# Altium footprint library pcblibLS.PcbLib: 49 footprints (part 2 of 4)
Each footprint in its own frame and in the unit in brackets; x right, y up, seen from the top. Pads: shape width x height; smd on the part's side, far side on the other; paste and mask are expansions set on the pad; w line width, h text height; cw(c..) or ccw(c..) is an arc to the next point about the centre after c.
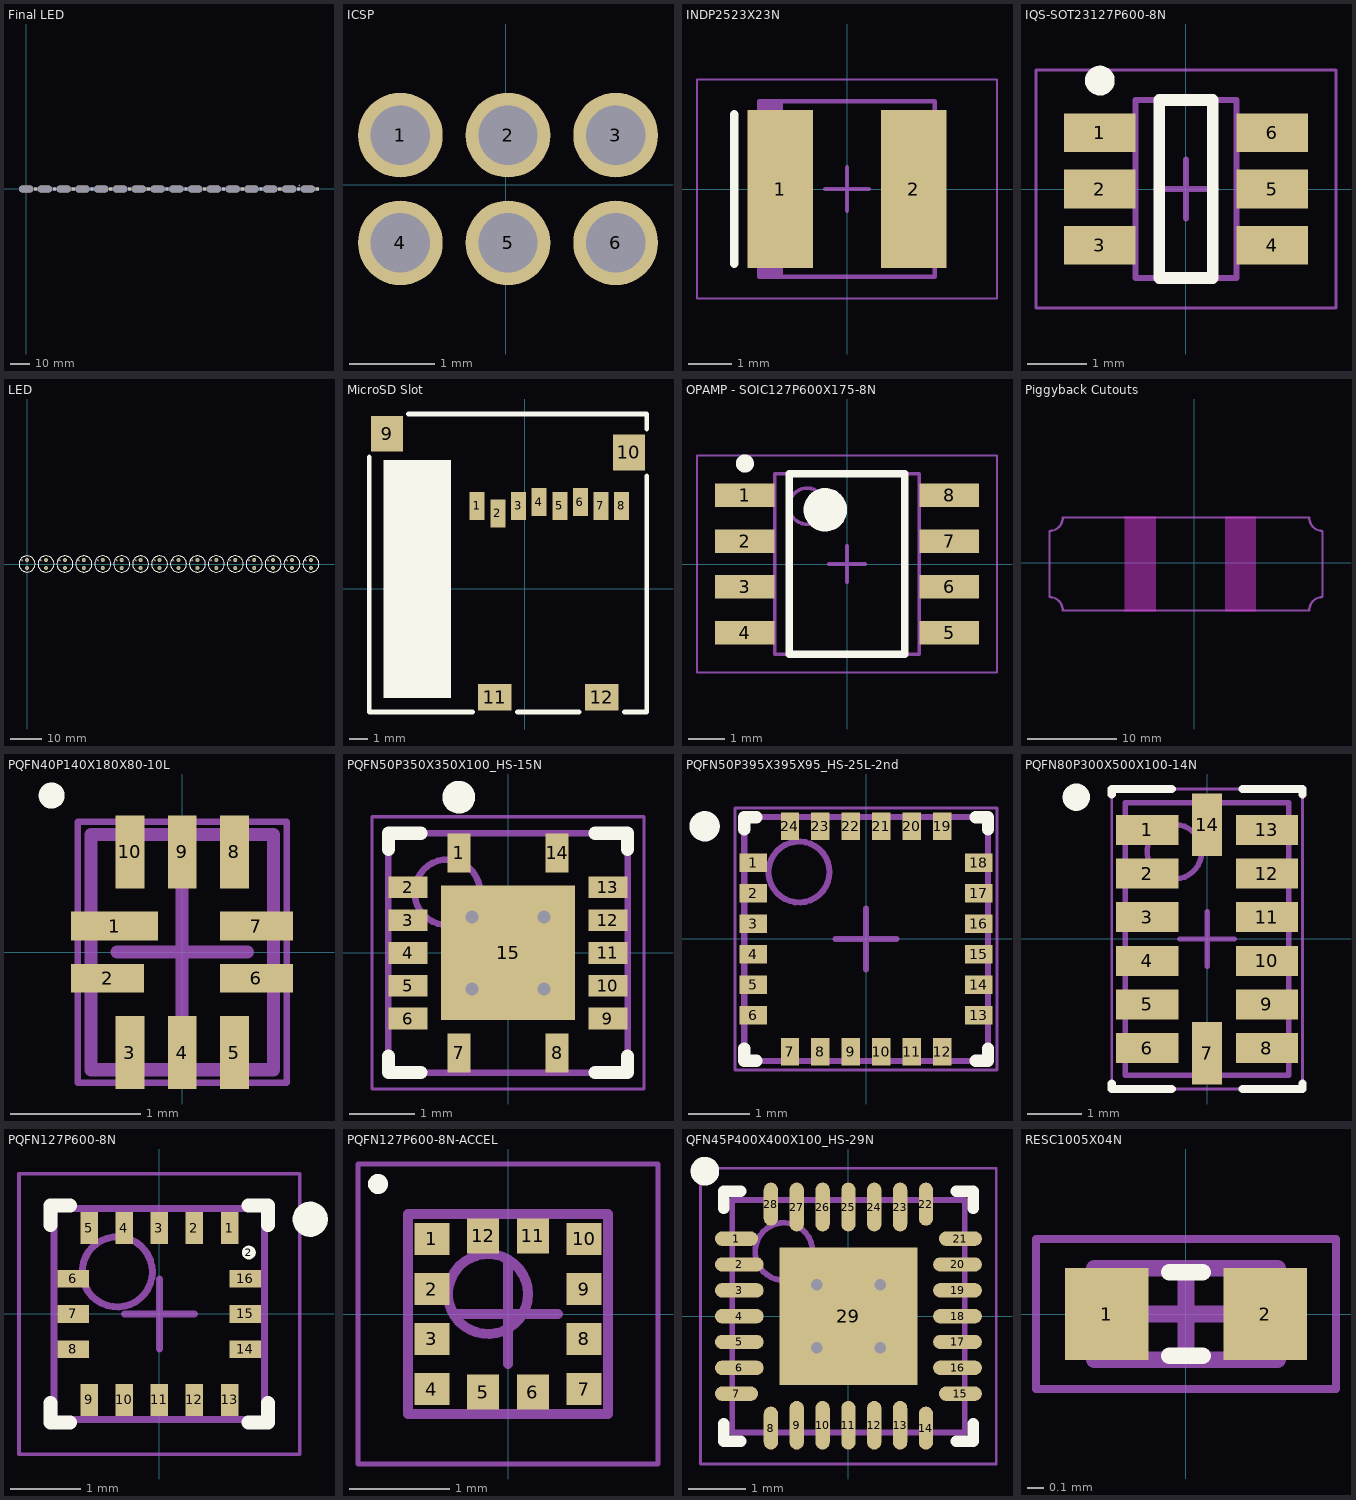
[diagram p1: the footprints below, top view; thin cyan lines are the x and y axes]

## Final LED [mil]
pads (48):
  rect 65x65 smd: A(189.75,-0.25) A(564.75,-0.25) A(939.75,-0.25) A(1314.75,-0.25) A(1689.75,-0.25) A(2064.75,-0.25) A(2439.75,-0.25) A(2814.75,-0.25) A(3189.75,-0.25) A(3564.75,-0.25) A(3939.75,-0.25) A(4314.75,-0.25) A(4689.75,-0.25) A(5064.75,-0.25) A(5439.75,-0.25) A(5814.75,-0.25)
  rect 65x65 smd far side: K(189.75,-0.25) K(564.75,-0.25) K(939.75,-0.25) K(1314.75,-0.25) K(1689.75,-0.25) K(2064.75,-0.25) K(2439.75,-0.25) K(2814.75,-0.25) K(3189.75,-0.25) K(3564.75,-0.25) K(3939.75,-0.25) K(4314.75,-0.25) K(4689.75,-0.25) K(5064.75,-0.25) K(5439.75,-0.25) K(5814.75,-0.25)
  oval 285x135 hole 135 slot 285 at 0 deg unplated: ""(-0.25,-0.25) ""(374.75,-0.25) ""(749.75,-0.25) ""(1124.75,-0.25) ""(1499.75,-0.25) ""(1874.75,-0.25) ""(2249.75,-0.25) ""(2624.75,-0.25) ""(2999.75,-0.25) ""(3374.75,-0.25) ""(3749.75,-0.25) ""(4124.75,-0.25) ""(4499.75,-0.25) ""(4874.75,-0.25) ""(5249.75,-0.25) ""(5624.75,-0.25)
Top Overlay:
  text "+" at 5429.75,41.75 h45
Bottom Overlay:
  text "GND" at 5499.73,-99.25 h45

## ICSP [mm] "50 mil pitch icsp headers..."
pads (6):
  round 1 hole 0.7: 1(-1.245,0.584) 2(0.025,0.584) 3(1.295,0.584) 4(-1.245,-0.686) 5(0.025,-0.686) 6(1.295,-0.686)

## INDP2523X23N [mm] "Bournes 4x4mm IND"
height 2.5
pads (2):
  rect 1.5x3.6 smd: 1(-1.525,0) 2(1.525,0)
Top Overlay:
  lines w0.2: -2.575,-1.7 -2.575,1.7
Mechanical 13:
  rectangle: -2,-2 -1.462,2
  lines w0.1: -2,-2 -2,2 2,2 2,-2 -2,-2
Mechanical 15:
  lines w0.05: -3.425,-2.5 -3.425,2.5 3.425,2.5 3.425,-2.5 -3.425,-2.5
  lines w0.1: -0.5,0 0.5,0 ; 0,-0.5 0,0.5
3D body: height 2.5, standoff 0, extent -2,-2 2,2

## IQS-SOT23127P600-8N [mm] "IQS127D IC"
height 1
pads (6):
  rect 1.2x0.65 smd: 1(-1.45,0.95) 2(-1.45,0) 3(-1.45,-0.95) 4(1.45,-0.95) 5(1.45,0) 6(1.45,0.95)
Top Overlay:
  circle w0.25: c-1.45,1.825 r0.125
  lines w0.2: -0.45,-1.5 0.45,-1.5 0.45,1.5 -0.45,1.5 -0.45,-1.5
Mechanical 13:
  lines w0.1: -0.85,-1.5 -0.85,1.5 0.85,1.5 0.85,-1.5 -0.85,-1.5
Mechanical 15:
  lines w0.05: -2.525,-2 -2.525,2 2.525,2 2.525,-2 -2.525,-2
  lines w0.1: -0.5,0 0.5,0 ; 0,-0.5 0,0.5
3D body: height 1, standoff 0.02, extent -0.85,-1.5 0.85,1.5

## LED [mil]
pads (32):
  round 50 hole 28: A(-0.39,50.2) A(234.69,50) A(468.98,50.2) A(704.06,50) A(938.35,50.2) A(1173.43,50) A(1407.72,50.2) A(1642.8,50) A(1877.09,50.2) A(2112.17,50) A(2346.46,50.2) A(2581.54,50) A(2815.83,50.2) A(3050.91,50) A(3285.2,50.2) A(3520.28,50) K(-0.39,-49.8) K(234.69,-50) K(468.98,-49.8) K(704.06,-50) K(938.35,-49.8) K(1173.43,-50) K(1407.72,-49.8) K(1642.8,-50) K(1877.09,-49.8) K(2112.17,-50) K(2346.46,-49.8) K(2581.54,-50) K(2815.83,-49.8) K(3050.91,-50) K(3285.2,-49.8) K(3520.28,-50)
Top Overlay:
  circle w10: c1877.09,0.2 r100
  circle w10: c2112.17,0 r100
  circle w10: c2581.54,0 r100
  circle w10: c2346.46,0.2 r100
  circle w10: c3285.2,0.2 r100
  circle w10: c3520.28,0 r100
  circle w10: c3050.91,0 r100
  circle w10: c2815.83,0.2 r100
  circle w10: c938.35,0.2 r100
  circle w10: c1173.43,0 r100
  circle w10: c1642.8,0 r100
  circle w10: c1407.72,0.2 r100
  circle w10: c468.98,0.2 r100
  circle w10: c704.06,0 r100
  circle w10: c234.69,0 r100
  circle w10: c-0.39,0.2 r100
  text "A" at 1802.48,25 h30
  text "A" at 2037.17,25 h30
  text "A" at 2506.54,25 h30
  text "A" at 2271.85,25 h30
  text "A" at 3210.59,25 h30
  text "A" at 3445.28,25 h30
  text "A" at 2975.91,25 h30
  text "A" at 2741.22,25 h30
  text "A" at 863.74,25 h30
  text "A" at 1098.43,25 h30
  text "A" at 1567.8,25 h30
  text "A" at 1333.11,25 h30
  text "A" at 394.37,25 h30
  text "A" at 629.06,25 h30
  text "A" at 159.69,25 h30
  text "A" at -75,25 h30

## MicroSD Slot [mm]
height 2.36
pads (12):
  rect 0.8x1.5 smd: 1(-2.541,4.423) 2(-1.441,4.023) 3(-0.341,4.423) 4(0.759,4.623) 5(1.859,4.423) 6(2.959,4.623) 7(4.059,4.423) 8(5.159,4.423)
  rect 1.7x1.9 smd: 9(-7.351,8.273) 10(5.549,7.273)
  rect 1.8x1.4 smd: 11(-1.601,-5.777) 12(4.099,-5.777)
Top Overlay:
  rectangle: -7.551,-5.827 -3.951,6.873
  lines w0.254: -8.301,7.023 -8.301,-6.577 -2.801,-6.577 ; -6.201,9.323 6.499,9.323 6.499,8.523 ; -0.401,-6.577 2.899,-6.577 ; 5.299,-6.577 6.499,-6.577 6.499,6.023

## OPAMP - SOIC127P600X175-8N [mm] "TI TLV2462 D Package"
height 1.75
pads (8):
  rect 1.65x0.65 smd: 1(-2.825,1.905) 2(-2.825,0.635) 3(-2.825,-0.635) 4(-2.825,-1.905) 5(2.825,-1.905) 6(2.825,-0.635) 7(2.825,0.635) 8(2.825,1.905)
Top Overlay:
  circle w0.25: c-2.825,2.78 r0.125
  circle w0.6: c-0.6,1.5 r0.3
  lines w0.2: -1.6,-2.5 -1.6,2.5 1.6,2.5 1.6,-2.5 -1.6,-2.5
Mechanical 13:
  circle w0.1: c-1.1,1.6 r0.5
  lines w0.1: -2,-2.5 -2,2.5 2,2.5 2,-2.5 -2,-2.5
Mechanical 15:
  lines w0.05: -4.15,-3 -4.15,3 4.15,3 4.15,-3 -4.15,-3
  lines w0.1: -0.5,0 0.5,0 ; 0,-0.5 0,0.5
3D body: height 1.75, standoff 0.01, extent -2,-2.5 2,2.5

## Piggyback Cutouts [mm] "Cutouts for piggyback board"
Keep-Out Layer:
  board cut-out: 3.5,-5.4 6.9,-5.4 6.9,5.175 3.5,5.175
  board cut-out: -7.75,-5.4 -4.275,-5.4 -4.275,5.175 -7.75,5.175
  lines w0.4: -7.55,-5.2 -7.55,4.985 -4.475,4.985 -4.475,-5.2 -7.55,-5.2 ; 3.7,-5.2 3.7,4.985 6.7,4.985 6.7,-5.2 3.7,-5.2
Mechanical 15:
  lines w0.254: -16.2,-3.825 cw(c-16.2,-5.325) -14.7,-5.325 12.9,-5.325 cw(c14.4,-5.325) 14.4,-3.825 14.4,3.575 cw(c14.4,5.075) 12.9,5.075 -14.7,5.075 cw(c-16.2,5.075) -16.2,3.575 -16.2,-3.825

## PQFN40P140X180X80-10L [mm] "2-SPDT-Switch - PQFN, 10-Leads, Body 1.40x1.80mm, Pitch 0.40mm, IPC High Density"
height 0.8
pads (10):
  rect 0.663x0.22 smd: 1(-0.519,0.2)
  rect 0.558x0.22 smd: 2(-0.571,-0.2) 6(0.569,-0.2) 7(0.569,0.2)
  rect 0.22x0.558 smd: 3(-0.4,-0.768) 4(0,-0.768) 5(0.4,-0.768) 8(0.4,0.768) 9(0,0.768) 10(-0.4,0.768)
Top Overlay:
  circle w0.1: c-1,1.2 r0.05
Mechanical 13:
  lines w0.1: -0.7,-0.9 0.7,-0.9 0.7,0.9 -0.7,0.9 -0.7,-0.9
Mechanical 15:
  lines w0.05: -0.8,-1 0.8,-1 0.8,1 -0.8,1 -0.8,-1
  lines w0.1: -0.5,0 0.5,0 ; 0,-0.5 0,0.5
3D body: height 0.8, standoff 0, extent -0.7,-0.9 0.7,0.9

## PQFN50P350X350X100_HS-15N [mm] "4-SWT - PQFN, 14-Leads, Body 3.50x3.50mm, Pitch 1.50mm/0.50mm, Thermal Pad 2.05x2.05mm, IPC Medium Density"
height 1
pads (15):
  rect 0.35x0.6 smd: 1(-0.75,1.525) 7(-0.75,-1.525) 8(0.75,-1.525) 14(0.75,1.525)
  rect 0.6x0.33 smd: 2(-1.525,1) 3(-1.525,0.5) 4(-1.525,0) 5(-1.525,-0.5) 6(-1.525,-1) 9(1.525,-1) 10(1.525,-0.5) 11(1.525,0) 12(1.525,0.5) 13(1.525,1)
  rect 2.05x2.05 smd: 15(0,0)
via -0.55,0.55 diameter 0.5 hole 0.2
via 0.55,0.55 diameter 0.5 hole 0.2
via -0.55,-0.55 diameter 0.5 hole 0.2
via 0.55,-0.55 diameter 0.5 hole 0.2
Top Overlay:
  circle w0.25: c-0.75,2.375 r0.125
  lines w0.2: -1.825,-1.575 -1.825,-1.825 -1.325,-1.825 ; -1.825,1.575 -1.825,1.825 -1.325,1.825 ; 1.325,-1.825 1.825,-1.825 1.825,-1.575 ; 1.325,1.825 1.825,1.825 1.825,1.575
Mechanical 13:
  circle w0.1: c-0.925,0.925 r0.5
  lines w0.1: -1.825,-1.825 -1.825,1.825 1.825,1.825 1.825,-1.825 -1.825,-1.825
Mechanical 15:
  lines w0.05: -2.075,-2.075 -2.075,2.075 2.075,2.075 2.075,-2.075 -2.075,-2.075
  lines w0.1: -0.5,0 0.5,0 ; 0,-0.5 0,0.5
3D body: height 1, standoff 0, extent -1.825,-1.825 1.825,1.825

## PQFN50P395X395X95_HS-25L-2nd [mm] "ITG3205 - PQFN, 24-Leads, Body 3.95x3.95mm, Pitch 0.50mm, Thermal Pad 2.90x2.80mm, IPC High Density"
height 0.95
pads (24):
  rect 0.45x0.3 smd: 1(-1.85,1.25) 2(-1.85,0.75) 3(-1.85,0.25) 4(-1.85,-0.25) 5(-1.85,-0.75) 6(-1.85,-1.25) 13(1.85,-1.25) 14(1.85,-0.75) 15(1.85,-0.25) 16(1.85,0.25) 17(1.85,0.75) 18(1.85,1.25)
  rect 0.3x0.45 smd: 7(-1.25,-1.85) 8(-0.75,-1.85) 9(-0.25,-1.85) 10(0.25,-1.85) 11(0.75,-1.85) 12(1.25,-1.85) 19(1.25,1.85) 20(0.75,1.85) 21(0.25,1.85) 22(-0.25,1.85) 23(-0.75,1.85) 24(-1.25,1.85)
Top Overlay:
  circle w0.25: c-2.65,1.85 r0.125
  lines w0.2: -2,-1.8 -2,-2 -1.8,-2 ; -2,1.8 -2,2 -1.8,2 ; 1.8,-2 2,-2 2,-1.8 ; 1.8,2 2,2 2,1.8
Mechanical 13:
  circle w0.1: c-1.1,1.1 r0.5
  lines w0.1: -2,-2 2,-2 2,2 -2,2 -2,-2
Mechanical 15:
  lines w0.05: -2.15,-2.15 2.15,-2.15 2.15,2.15 -2.15,2.15 -2.15,-2.15
  lines w0.1: -0.5,0 0.5,0 ; 0,-0.5 0,0.5
3D body: height 0.95, standoff 0, extent -2,-2 2,2

## PQFN80P300X500X100-14N [mm] "ADXL345 - PQFN, 14-Leads, Body 3.00x5.00mm, Pitch 1.01mm/0.80mm, IPC Medium Density"
height 1
pads (14):
  rect 1.145x0.55 smd: 1(-1.098,2) 2(-1.098,1.2) 3(-1.098,0.4) 4(-1.098,-0.4) 5(-1.098,-1.2) 6(-1.098,-2) 8(1.097,-2) 9(1.097,-1.2) 10(1.097,-0.4) 11(1.097,0.4) 12(1.097,1.2) 13(1.097,2)
  rect 0.55x1.145 smd: 7(0,-2.098) 14(0,2.097)
Top Overlay:
  circle w0.25: c-2.4,2.6 r0.125
  lines w0.15: -1.75,-2.65 -1.75,-2.75 -0.65,-2.75 ; -1.75,2.65 -1.75,2.75 -0.65,2.75 ; 0.65,-2.75 1.75,-2.75 1.75,-2.65 ; 0.65,2.75 1.75,2.75 1.75,2.65
Mechanical 13:
  circle w0.1: c-0.6,1.6 r0.5
  lines w0.1: -1.5,-2.5 -1.5,2.5 1.5,2.5 1.5,-2.5 -1.5,-2.5
Mechanical 15:
  lines w0.05: -1.75,-2.75 -1.75,2.75 1.75,2.75 1.75,-2.75 -1.75,-2.75
  lines w0.1: -0.5,0 0.5,0 ; 0,-0.5 0,0.5
3D body: height 1, standoff 0, extent -1.5,-2.5 1.5,2.5

## PQFN127P600-8N [mm] "STM 16 Pin LGA"
height 0.86
pads (17):
  rect 0.25x0.45 smd: 1(1,1.225) 2(0.5,1.225) 3(0,1.225) 4(-0.5,1.225) 5(-1,1.225) 9(-1,-1.225) 10(-0.5,-1.225) 11(0,-1.225) 12(0.5,-1.225) 13(1,-1.225)
  round 0.2 on Top Overlay: 2(1.275,0.875)
  rect 0.45x0.25 smd: 6(-1.225,0.5) 7(-1.225,0) 8(-1.225,-0.5) 14(1.225,-0.5) 15(1.225,0) 16(1.225,0.5)
Top Overlay:
  circle w0.25: c2.15,1.35 r0.125
  lines w0.2: -1.549,-1.27 -1.549,-1.549 -1.27,-1.549 ; -1.549,1.27 -1.549,1.549 -1.27,1.549 ; 1.27,-1.549 1.549,-1.549 1.549,-1.27 ; 1.27,1.549 1.549,1.549 1.549,1.27
Mechanical 13:
  circle w0.1: c-0.6,0.6 r0.5
  lines w0.1: -1.5,-1.5 1.5,-1.5 1.5,1.5 -1.5,1.5 -1.5,-1.5
Mechanical 15:
  lines w0.05: -2,-2 2,-2 2,2 -2,2 -2,-2
  lines w0.1: -0.5,0 0.5,0 ; 0,-0.5 0,0.5
3D body: height 0.86, standoff 0, extent -1.5,-1.5 1.5,1.5

## PQFN127P600-8N-ACCEL [mm] "KX022"
height 1
pads (12):
  rect 0.351x0.321 smd: 1(-0.76,0.75) 2(-0.76,0.25) 3(-0.76,-0.25) 4(-0.76,-0.75) 7(0.76,-0.75) 8(0.76,-0.25) 9(0.76,0.25) 10(0.76,0.75)
  rect 0.321x0.351 smd: 5(-0.25,-0.78) 6(0.25,-0.78) 11(0.25,0.78) 12(-0.25,0.78)
Top Overlay:
  circle w0.1: c-1.3,1.3 r0.05
Mechanical 13:
  circle w0.1: c-0.2,0.2 r0.4
  lines w0.1: -1,-1 -1,1 1,1 1,-1 -1,-1
Mechanical 15:
  lines w0.05: -1.5,-1.5 -1.5,1.5 1.5,1.5 1.5,-1.5 -1.5,-1.5
  lines w0.1: -0.5,0 0.5,0 ; 0,-0.5 0,0.5
3D body: height 1, standoff 0.13, extent -1,-1 1,1

## QFN45P400X400X100_HS-29N [mm] "Atmega - QFN, 28-Leads, Body 4.00x4.00mm, Pitch 0.45mm, Thermal Pad 2.40x2.40mm, IPC Medium Density"
height 1
pads (29):
  oval 0.75x0.25 smd: 1(-1.95,1.35) 7(-1.95,-1.35) 15(1.95,-1.35) 21(1.95,1.35)
  oval 0.85x0.25 smd: 2(-1.9,0.9) 3(-1.9,0.45) 4(-1.9,0) 5(-1.9,-0.45) 6(-1.9,-0.9) 16(1.9,-0.9) 17(1.9,-0.45) 18(1.9,0) 19(1.9,0.45) 20(1.9,0.9)
  oval 0.25x0.75 smd: 8(-1.35,-1.95) 14(1.35,-1.95) 22(1.35,1.95) 28(-1.35,1.95)
  oval 0.25x0.85 smd: 9(-0.9,-1.9) 10(-0.45,-1.9) 11(0,-1.9) 12(0.45,-1.9) 13(0.9,-1.9) 23(0.9,1.9) 24(0.45,1.9) 25(0,1.9) 26(-0.45,1.9) 27(-0.9,1.9)
  rect 2.4x2.4 smd: 29(0,0)
via 0.55,-0.55 diameter 0.5 hole 0.2
via -0.55,-0.55 diameter 0.5 hole 0.2
via 0.55,0.55 diameter 0.5 hole 0.2
via -0.55,0.55 diameter 0.5 hole 0.2
Top Overlay:
  circle w0.25: c-2.5,2.525 r0.125
  lines w0.2: -2.175,-1.875 -2.175,-2.175 -1.875,-2.175 ; -2.175,1.875 -2.175,2.175 -1.875,2.175 ; 1.875,-2.175 2.175,-2.175 2.175,-1.875 ; 1.875,2.175 2.175,2.175 2.175,1.875
Mechanical 13:
  circle w0.1: c-1.125,1.125 r0.5
  lines w0.1: -2.025,-2.025 2.025,-2.025 2.025,2.025 -2.025,2.025 -2.025,-2.025
Mechanical 15:
  lines w0.05: -2.575,-2.575 2.575,-2.575 2.575,2.575 -2.575,2.575 -2.575,-2.575
  lines w0.1: -0.5,0 0.5,0 ; 0,-0.5 0,0.5
3D body: height 1, standoff 0, extent -2.025,-2.025 2.025,2.025

## RESC1005X04N [mm] "0402 - Chip Resistor, 2-Leads, Body 1.00x0.50mm, IPC Medium Density"
height 0.4
pads (2):
  rect 0.5x0.55 smd: 1(-0.475,0) 2(0.475,0)
Top Overlay:
  lines w0.1: -0.1,-0.25 0.1,-0.25 ; -0.1,0.25 0.1,0.25
Mechanical 13:
  lines w0.1: -0.55,-0.275 0.55,-0.275 0.55,0.275 -0.55,0.275 -0.55,-0.275
Mechanical 15:
  lines w0.05: -0.9,-0.45 0.9,-0.45 0.9,0.45 -0.9,0.45 -0.9,-0.45
  lines w0.1: -0.275,0 0.275,0 ; 0,-0.275 0,0.275
3D body: height 0.4, standoff 0, extent 0.3,-0.275 0.55,0.275
3D body: height 0.4, standoff 0, extent -0.55,-0.275 -0.3,0.275
3D body: height 0.4, standoff 0, extent -0.3,-0.275 0.3,0.275